# Altium footprint library za_koncar.PcbLib: 43 footprints (part 3 of 3)
Each footprint in its own frame and in the unit in brackets; x right, y up, seen from the top. Pads: shape width x height; smd on the part's side, far side on the other; paste and mask are expansions set on the pad; w line width, h text height; cw(c..) or ccw(c..) is an arc to the next point about the centre after c.
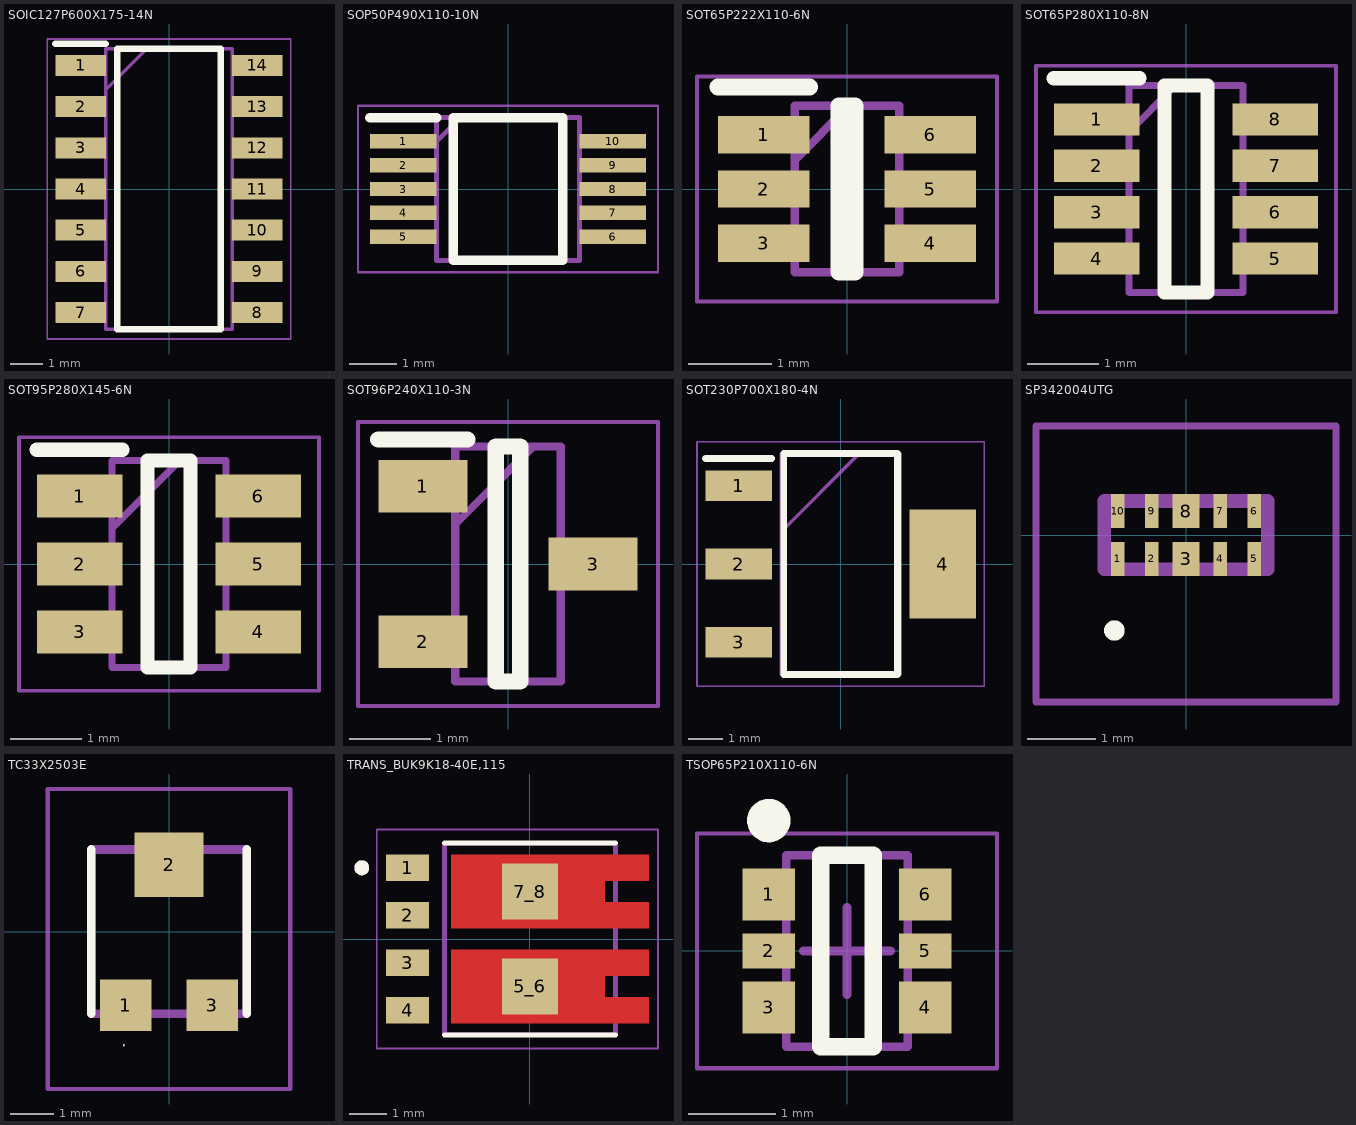
[diagram p2: the footprints below, top view; thin cyan lines are the x and y axes]

## SOIC127P600X175-14N [mm]
pads (14):
  rect 1.55x0.65 smd: 1(-2.725,3.81) 2(-2.725,2.54) 3(-2.725,1.27) 4(-2.725,0) 5(-2.725,-1.27) 6(-2.725,-2.54) 7(-2.725,-3.81) 8(2.725,-3.81) 9(2.725,-2.54) 10(2.725,-1.27) 11(2.725,0) 12(2.725,1.27) 13(2.725,2.54) 14(2.725,3.81)
Top Overlay:
  lines w0.2: -3.5,4.485 -1.95,4.485 ; -1.6,-4.325 -1.6,4.325 1.6,4.325 1.6,-4.325 -1.6,-4.325
Mechanical 13:
  lines w0.1: -1.95,3.055 -0.68,4.325 ; -1.95,-4.325 -1.95,4.325 1.95,4.325 1.95,-4.325 -1.95,-4.325
Mechanical 15:
  lines w0.05: -3.75,-4.625 -3.75,4.625 3.75,4.625 3.75,-4.625 -3.75,-4.625
3D body "MC33079DR2G.stp": height 1.75, standoff 0, extent -3,-4.325 3,4.325

## SOP50P490X110-10N [mm]
pads (10):
  rect 1.4x0.3 smd: 1(-2.2,1) 2(-2.2,0.5) 3(-2.2,0) 4(-2.2,-0.5) 5(-2.2,-1) 6(2.2,-1) 7(2.2,-0.5) 8(2.2,0) 9(2.2,0.5) 10(2.2,1)
Top Overlay:
  lines w0.2: -2.9,1.5 -1.5,1.5 ; -1.15,-1.5 -1.15,1.5 1.15,1.5 1.15,-1.5 -1.15,-1.5
Mechanical 13:
  lines w0.1: -1.5,1 -1,1.5 ; -1.5,-1.5 -1.5,1.5 1.5,1.5 1.5,-1.5 -1.5,-1.5
Mechanical 15:
  lines w0.05: -3.15,-1.75 -3.15,1.75 3.15,1.75 3.15,-1.75 -3.15,-1.75
3D body "MCP4728-E_UN.stp": height 1.1, standoff 0, extent -2.45,-1.5 2.45,1.5

## SOT65P222X110-6N [mm]
pads (6):
  rect 1.1x0.45 smd: 1(-1,0.65) 2(-1,0) 3(-1,-0.65) 4(1,-0.65) 5(1,0) 6(1,0.65)
Top Overlay:
  lines w0.2: -1.55,1.225 -0.45,1.225 ; -0.1,-1 -0.1,1 0.1,1 0.1,-1 -0.1,-1
Mechanical 13:
  lines w0.1: -0.625,0.35 0.025,1 ; -0.625,-1 -0.625,1 0.625,1 0.625,-1 -0.625,-1
Mechanical 15:
  lines w0.05: -1.8,-1.35 -1.8,1.35 1.8,1.35 1.8,-1.35 -1.8,-1.35
3D body "BAT54DW-7-F.stp": height 1.1, standoff 0, extent -1.112,-1 1.112,1

## SOT65P280X110-8N [mm]
pads (8):
  rect 1.2x0.45 smd: 1(-1.25,0.975) 2(-1.25,0.325) 3(-1.25,-0.325) 4(-1.25,-0.975) 5(1.25,-0.975) 6(1.25,-0.325) 7(1.25,0.325) 8(1.25,0.975)
Top Overlay:
  lines w0.2: -1.85,1.55 -0.65,1.55 ; -0.3,-1.45 -0.3,1.45 0.3,1.45 0.3,-1.45 -0.3,-1.45
Mechanical 13:
  lines w0.1: -0.8,0.8 -0.15,1.45 ; -0.8,-1.45 -0.8,1.45 0.8,1.45 0.8,-1.45 -0.8,-1.45
Mechanical 15:
  lines w0.05: -2.1,-1.725 -2.1,1.725 2.1,1.725 2.1,-1.725 -2.1,-1.725
3D body "LM358BIDDFR.stp": height 0.9, standoff 0, extent -1.41,-1.45 1.41,1.45

## SOT95P280X145-6N [mm]
pads (6):
  rect 1.2x0.6 smd: 1(-1.25,0.95) 2(-1.25,0) 3(-1.25,-0.95) 4(1.25,-0.95) 5(1.25,0) 6(1.25,0.95)
Top Overlay:
  lines w0.2: -1.85,1.6 -0.65,1.6 ; -0.3,-1.45 -0.3,1.45 0.3,1.45 0.3,-1.45 -0.3,-1.45
Mechanical 13:
  lines w0.1: -0.8,0.5 0.15,1.45 ; -0.8,-1.45 -0.8,1.45 0.8,1.45 0.8,-1.45 -0.8,-1.45
Mechanical 15:
  lines w0.05: -2.1,-1.775 -2.1,1.775 2.1,1.775 2.1,-1.775 -2.1,-1.775
3D body "REF3425IDBVR.stp": height 1.45, standoff 0, extent -1.4,-1.45 1.4,1.45

## SOT96P240X110-3N [mm]
pads (3):
  rect 1.1x0.65 smd: 1(-1.05,0.96) 2(-1.05,-0.96) 3(1.05,0)
Top Overlay:
  lines w0.2: -1.6,1.535 -0.5,1.535 ; -0.15,-1.45 0.15,-1.45 0.15,1.45 -0.15,1.45 -0.15,-1.45
Mechanical 13:
  lines w0.1: -0.65,0.49 0.31,1.45 ; -0.65,-1.45 0.65,-1.45 0.65,1.45 -0.65,1.45 -0.65,-1.45
Mechanical 15:
  lines w0.05: -1.85,-1.75 1.85,-1.75 1.85,1.75 -1.85,1.75 -1.85,-1.75
3D body "DMG3406L-13.stp": height 1.1, standoff 0, extent -1.2,-1.45 1.2,1.45

## SOT230P700X180-4N [mm]
pads (4):
  rect 1.95x0.9 smd: 1(-3,2.3) 2(-3,0) 3(-3,-2.3)
  rect 1.95x3.2 smd: 4(3,0)
Top Overlay:
  lines w0.2: -3.975,3.1 -2.025,3.1 ; -1.675,-3.25 1.675,-3.25 1.675,3.25 -1.675,3.25 -1.675,-3.25
Mechanical 13:
  lines w0.1: -1.75,0.95 0.55,3.25 ; -1.75,-3.25 1.75,-3.25 1.75,3.25 -1.75,3.25 -1.75,-3.25
Mechanical 15:
  lines w0.05: -4.225,-3.6 4.225,-3.6 4.225,3.6 -4.225,3.6 -4.225,-3.6
3D body "NCR321ZX.stp": height 1.65, standoff 0, extent -3.5,-3.333 3.5,3.327

## SP342004UTG [mm]
pads (10):
  rect 0.2x0.5 smd: 1(-1,-0.35) 2(-0.5,-0.35) 4(0.5,-0.35) 5(1,-0.35) 6(1,0.35) 7(0.5,0.35) 9(-0.5,0.35) 10(-1,0.35)
  rect 0.4x0.5 smd: 3(0,-0.35) 8(0,0.35)
Top Overlay:
  lines w0.2: -1.1,-1.4 ccw(c-1.05,-1.4) -1,-1.4 ; -1.1,-1.4 cw(c-1.05,-1.4) -1,-1.4 ; -1.1,-1.4 ccw(c-1.05,-1.4) -1,-1.4
Mechanical 13:
  lines w0.2: -1.2,-0.5 -1.2,0.5 1.2,0.5 1.2,-0.5 -1.2,-0.5
Mechanical 15:
  lines w0.1: -2.2,-2.45 -2.2,1.6 2.2,1.6 2.2,-2.45 -2.2,-2.45
3D body "SP3420-04UTG.stp": height 0.55, standoff 0, extent -1.25,-0.5 1.25,0.5

## TC33X2503E [mm]
pads (3):
  rect 1.2x1.2 smd: 1(-1,-1.7) 3(1,-1.7)
  rect 1.6x1.5 smd: 2(0,1.55)
Top Overlay:
  lines w0.022: -1.052,-2.625 cw(c-1.041,-2.625) -1.03,-2.625 cw(c-1.041,-2.625) -1.052,-2.625
  lines w0.2: -1.8,-1.9 -1.8,1.9 ; 1.8,-1.9 1.8,1.9
Mechanical 13:
  lines w0.2: -1.8,-1.9 -1.8,1.9 1.8,1.9 1.8,-1.9 -1.8,-1.9
Mechanical 15:
  lines w0.1: -2.8,-3.636 -2.8,3.3 2.8,3.3 2.8,-3.636 -2.8,-3.636
3D body "TC33X-2-502G.stp": height 1.22, standoff 0, extent -1.5,-2 1.5,1.8

## TRANS_BUK9K18-40E,115 [mm]
pads (6):
  rect 1.15x0.7 smd paste-0.025: 1(-3.275,1.905) 2(-3.275,0.635) 3(-3.275,-0.635) 4(-3.275,-1.905)
  rect 1.5x1.5 smd paste-2 mask+0: 5_6(0,-1.27) 7_8(0,1.27)
Top Layer:
  region: 3.175,1.555 2,1.555 2,0.985 3.175,0.985 3.175,0.285 -2.1,0.285 -2.1,2.255 3.175,2.255
  region: 3.175,-0.985 2,-0.985 2,-1.555 3.175,-1.555 3.175,-2.255 -2.1,-2.255 -2.1,-0.285 3.175,-0.285
Top Overlay:
  circle w0.2: c-4.5,1.905 r0.1
  lines w0.127: -2.288,-2.568 2.288,-2.568 ; -2.288,2.568 2.288,2.568
Top Paste:
  region: 3.15,1.58 1.25,1.58 1.25,2.23 3.15,2.23
  region: 3.15,0.31 1.25,0.31 1.25,0.96 3.15,0.96
  region: -0.875,0.72 -1.875,0.72 -1.875,1.72 -0.875,1.72
  region: 0.925,0.72 -0.075,0.72 -0.075,1.72 0.925,1.72
  region: 3.15,-2.23 1.25,-2.23 1.25,-1.58 3.15,-1.58
  region: 3.15,-0.96 1.25,-0.96 1.25,-0.31 3.15,-0.31
  region: -0.875,-1.72 -1.875,-1.72 -1.875,-0.72 -0.875,-0.72
  region: 0.925,-1.72 -0.075,-1.72 -0.075,-0.72 0.925,-0.72
Top Solder:
  region: 3.175,1.555 2,1.555 2,0.985 3.175,0.985 3.175,0.285 -2.1,0.285 -2.1,2.255 3.175,2.255
  region: 3.175,-0.985 2,-0.985 2,-1.555 3.175,-1.555 3.175,-2.255 -2.1,-2.255 -2.1,-0.285 3.175,-0.285
Mechanical 13:
  circle w0.2: c-4.5,1.905 r0.1
  lines w0.127: -2.288,-2.562 2.288,-2.562 2.288,2.562 -2.288,2.562 -2.288,-2.562
Mechanical 15:
  lines w0.05: -4.1,-2.925 3.425,-2.925 3.425,2.925 -4.1,2.925 -4.1,-2.925
3D body "step_temp.STEP": height 1.05, standoff 0, extent -3.025,-2.562 3.025,2.562

## TSOP65P210X110-6N [mm] "TSOP, 6-Leads, Body 2.00x1.25mm, Pitch 0.65mm, IPC Medium Density"
height 1.1
pads (6):
  rect 0.6x0.6 smd: 1(-0.9,0.65) 3(-0.9,-0.65) 4(0.9,-0.65) 6(0.9,0.65)
  rect 0.6x0.4 smd: 2(-0.9,0) 5(0.9,0)
Top Overlay:
  circle w0.25: c-0.9,1.5 r0.125
  lines w0.2: -0.3,-1.1 -0.3,1.1 0.3,1.1 0.3,-1.1 -0.3,-1.1
Mechanical 13:
  lines w0.1: -0.7,-1.1 -0.7,1.1 0.7,1.1 0.7,-1.1 -0.7,-1.1
Mechanical 15:
  lines w0.05: -1.725,-1.35 -1.725,1.35 1.725,1.35 1.725,-1.35 -1.725,-1.35
  lines w0.1: -0.5,0 0.5,0 ; 0,-0.5 0,0.5
3D body "TSOP65P210X110-6N.step": height 1.1, standoff 0.01, extent -1.043,-1.1 1.043,1.1